# Altium footprint library Capacitores_PCBLIB.PcbLib: 27 footprints (part 2 of 2)
Each footprint in its own frame and in the unit in brackets; x right, y up, seen from the top. Pads: shape width x height; smd on the part's side, far side on the other; paste and mask are expansions set on the pad; w line width, h text height; cw(c..) or ccw(c..) is an arc to the next point about the centre after c.
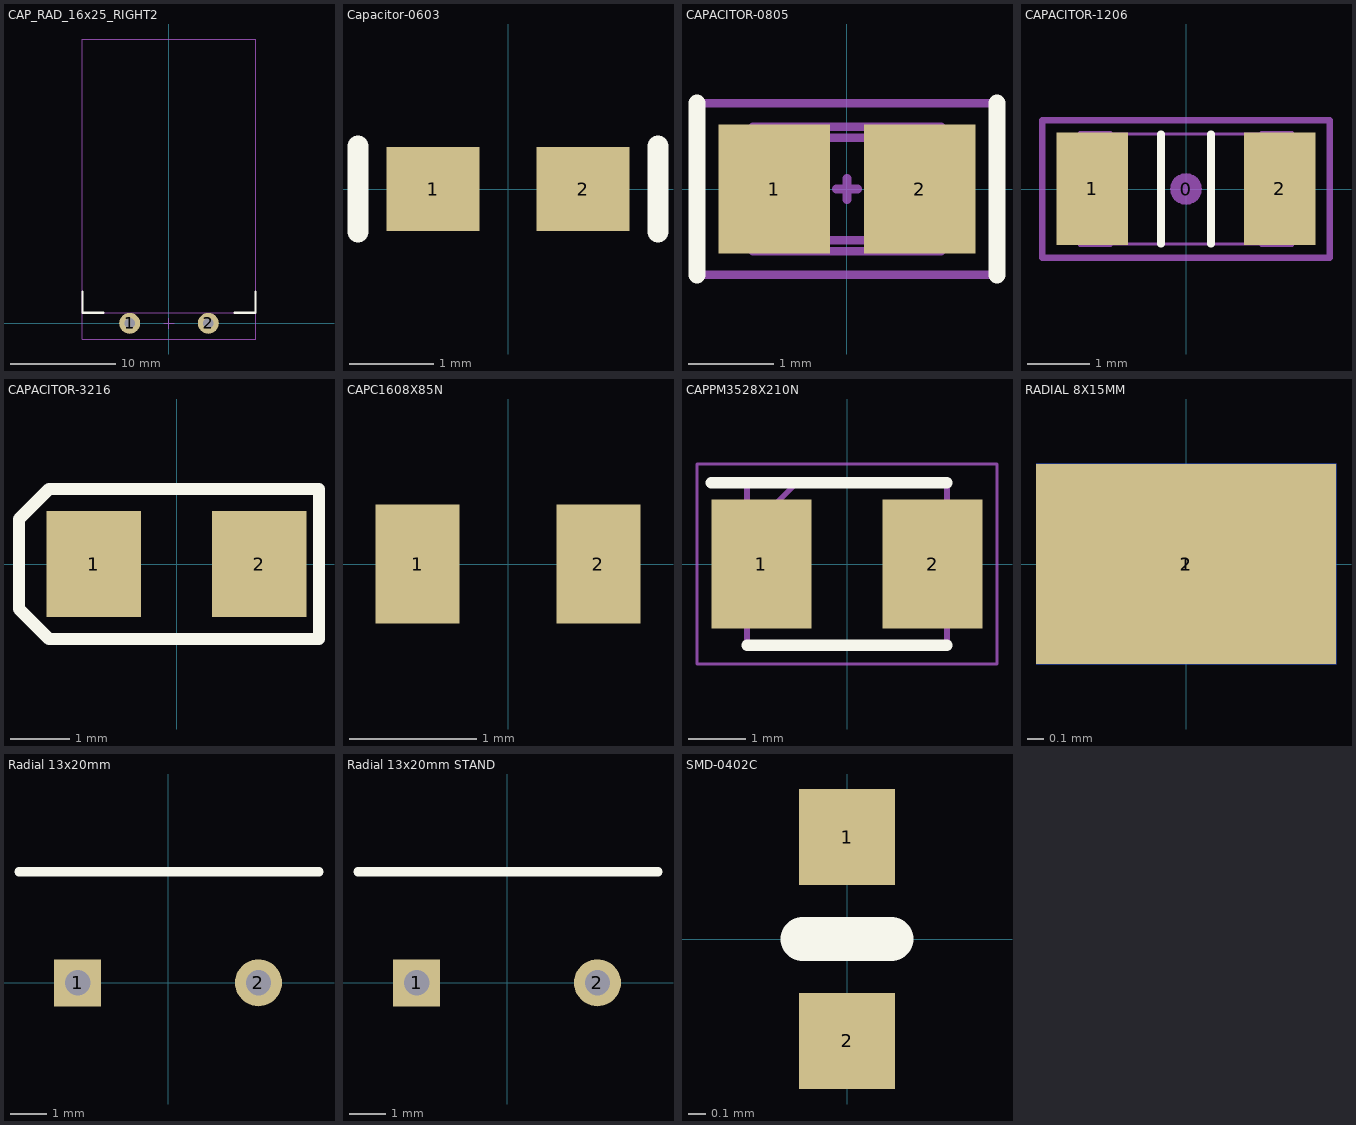
[diagram p1: the footprints below, top view; thin cyan lines are the x and y axes]

## CAP_RAD_16x25_RIGHT2 [mm] "CAP_RAD_16x25__RIGHT2"
height 16
pads (2):
  round 2 hole 1: 1(-3.75,0) 2(3.75,0)
Top Overlay:
  lines w0.2: -8.25,3 -8.25,1 -6.25,1 ; 6.25,1 8.25,1 8.25,3
Mechanical 13:
  lines w0.1: -8.25,1 8.25,1 8.25,27.1 -8.25,27.1 -8.25,1
Mechanical 15:
  lines w0.1: -8.25,3 -8.25,-1.5 -3.75,-1.5 8.25,-1.5 8.25,3 ; -0.5,0 0.5,0 ; 0,-0.5 0,0.5
3D body "CAP_RAD_16x25_RIGHT2.STEP": height 16.75, standoff -2.55, extent -8.25,-0.4 8.25,27.1

## Capacitor-0603 [mm] "Chip Capacitor; Body 1.6 x 0.8 mm (LxW typ)"
height 0.87
pads (2):
  rect 1.1x1 smd: 1(-0.889,0) 2(0.889,0)
Top Overlay:
  lines w0.254: -1.778,-0.508 -1.778,0.508 ; 1.778,-0.508 1.778,0.508
3D body "cap0603.STEP": height 0.89, standoff -0.01, extent -1.27,-0.508 1.33,0.492

## CAPACITOR-0805 [mm] "Chip, Body 2.0x1.3mm, IPC Medium Density"
height 1.1
pads (2):
  rect 1.3x1.5 smd: 1(-0.85,0) 2(0.85,0)
Top Overlay:
  lines w0.2: -1.75,-1 -1.75,1 ; 1.75,-1 1.75,1
Mechanical 13:
  lines w0.1: -1,-0.6 -1,0.6 1,0.6 1,-0.6 -1,-0.6
Mechanical 15:
  lines w0.1: -0.127,0 0.127,0 ; 0,-0.127 0,0.127 ; -1.75,-1 1.75,-1 1.75,1 -1.75,1 -1.75,-1
Mechanical 29:
  lines w0.1: -1.1,-0.725 1.1,-0.725 1.1,0.725 -1.1,0.725 -1.1,-0.725
  text ".Designator" at -1.27,-0.508 h1
3D body: height 1.2, standoff 0, extent -1,-0.6 1,0.6

## CAPACITOR-1206 [mm] "Chip Capacitor, Body 3.2x1.6mm, 1.0mm H, EIA 1206, IPC Medium Density"
height 1
pads (3):
  round 0.508 on Mech15: 0(0,0)
  rect 1.15x1.8 smd: 1(-1.5,0) 2(1.5,0)
Top Overlay:
  lines w0.127: -0.4,-0.876 -0.4,0.876 ; 0.4,-0.876 0.4,0.876
Mechanical 13:
  lines w0.05: -1.2,-0.88 1.2,-0.88 ; -1.2,0.88 1.2,0.88 ; -1.7,-0.9 -1.7,0.9 -1.2,0.9 -1.2,-0.9 -1.7,-0.9 ; 1.2,-0.9 1.2,0.9 1.7,0.9 1.7,-0.9 1.2,-0.9
Mechanical 15:
  lines w0.1: -2.3,-1.1 2.3,-1.1 2.3,1.1 -2.3,1.1 -2.3,-1.1
3D body "CAPC3216X100N - 1206 (3216 metric).STEP": height 1, standoff 0, extent -1.7,-0.9 1.7,0.9

## CAPACITOR-3216 [mm] "Chip Capacitor; Body 3.2 x 1.6 mm (LxW typ)"
height 1.5
pads (2):
  rect 1.6x1.8 smd: 1(-1.4,0) 2(1.4,0)
Top Overlay:
  lines w0.203: -2.667,-0.762 -2.667,0.762 -2.159,1.27 2.413,1.27 2.413,-1.27 -2.159,-1.27 -2.667,-0.762
3D body "cap3216.step": height 1.8, standoff -0.04, extent -2.398,-0.914 2.398,0.889

## CAPC1608X85N [mil]
pads (2):
  rect 26x37 smd: 1(-28,0) 2(28,0)

## CAPPM3528X210N [mm]
pads (2):
  rect 1.75x2.25 smd: 1(-1.5,0) 2(1.5,0)
Top Overlay:
  lines w0.2: -2.375,1.425 1.75,1.425 ; -1.75,-1.425 1.75,-1.425
Mechanical 13:
  lines w0.1: -1.75,0.55 -0.875,1.425 ; -1.75,-1.425 -1.75,1.425 1.75,1.425 1.75,-1.425 -1.75,-1.425
Mechanical 15:
  lines w0.05: -2.625,-1.75 -2.625,1.75 2.625,1.75 2.625,-1.75 -2.625,-1.75
3D body "TAJB106K006RNJV.stp": height 2.1, standoff 0, extent -1.75,-1.425 1.75,1.425

## RADIAL 8X15MM [mm]
pads (2):
  rect 1.8x1.2 smd: 1(0,0)
  rect 1.8x1.2 smd far side: 2(0,0)
3D body: height 4, standoff -4, extent -9.25,-15.75 -1.25,-0.75

## Radial 13x20mm [mm]
pads (2):
  rect 1.3x1.3 hole 0.7: 1(-2.5,0)
  round 1.3 hole 0.7: 2(2.5,0)
Top Overlay:
  lines w0.254: -4.125,3.075 4.175,3.075
3D body: height 10.8, standoff -0.7, extent -2.798,-0.325 -2.2,0.274
3D body: height 10.8, standoff -0.7, extent 2.202,-0.299 2.8,0.3
3D body "User Library-JAMICON_TK_D(12_5)F(5)L(20).STEP": height 16.85, standoff 4.35, extent -6.275,-0.225 6.255,21.305

## Radial 13x20mm STAND [mm]
pads (2):
  rect 1.3x1.3 hole 0.7: 1(-2.5,0)
  round 1.3 hole 0.7: 2(2.5,0)
Top Overlay:
  lines w0.254: -4.125,3.075 4.175,3.075
3D body "1000uF_16V.STEP": height 15.25, standoff -24.65, extent -5,-5 5,5

## SMD-0402C [mm]
pads (2):
  rect 0.55x0.55 smd: 1(0,0.584) 2(0,-0.584)
Top Overlay:
  lines w0.254: -0.254,0 0.254,0
3D body "capacitor 0402.step": height 0.51, standoff 0, extent -0.254,-0.508 0.254,0.508